# Altium schematic symbol library SCHOTTKY 20V 1A SOD123F.SchLib: 1 symbol
Pins are listed as number, name and electrical type; pins without a type are passive.

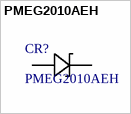
[diagram p0: symbol PMEG2010AEH]

## PMEG2010AEH
designator CR?
No Description Available; Vendor: NXP; Built_By: EMA_UL_Team; SourceLibrary: NXP_2011-11-10; Type: DEV; Manufacturer_Part_Number: PMEG2010AEH; Copyright: Copyright (C) 2018 Accelerated Designs. All rights reserved; RefDes: RefDes
footprint SOD123F_NXP-M
pins: 1, 2